# Altium schematic symbol library XL-1608SURC-06.SchLib: 1 symbol
Pins are listed as number, name and electrical type; pins without a type are passive.

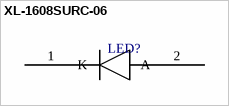
[diagram p0: symbol XL-1608SURC-06]

## XL-1608SURC-06
designator LED?  (value not drawn)
footprint XL-1608SURC-06
pins: 1 K (power), 2 A (power)